# Altium footprint library ESP32_WROOM_PCB_LIB.....PcbLib: 15 footprints
Each footprint in its own frame and in the unit in brackets; x right, y up, seen from the top. Pads: shape width x height; smd on the part's side, far side on the other; paste and mask are expansions set on the pad; w line width, h text height; cw(c..) or ccw(c..) is an arc to the next point about the centre after c.
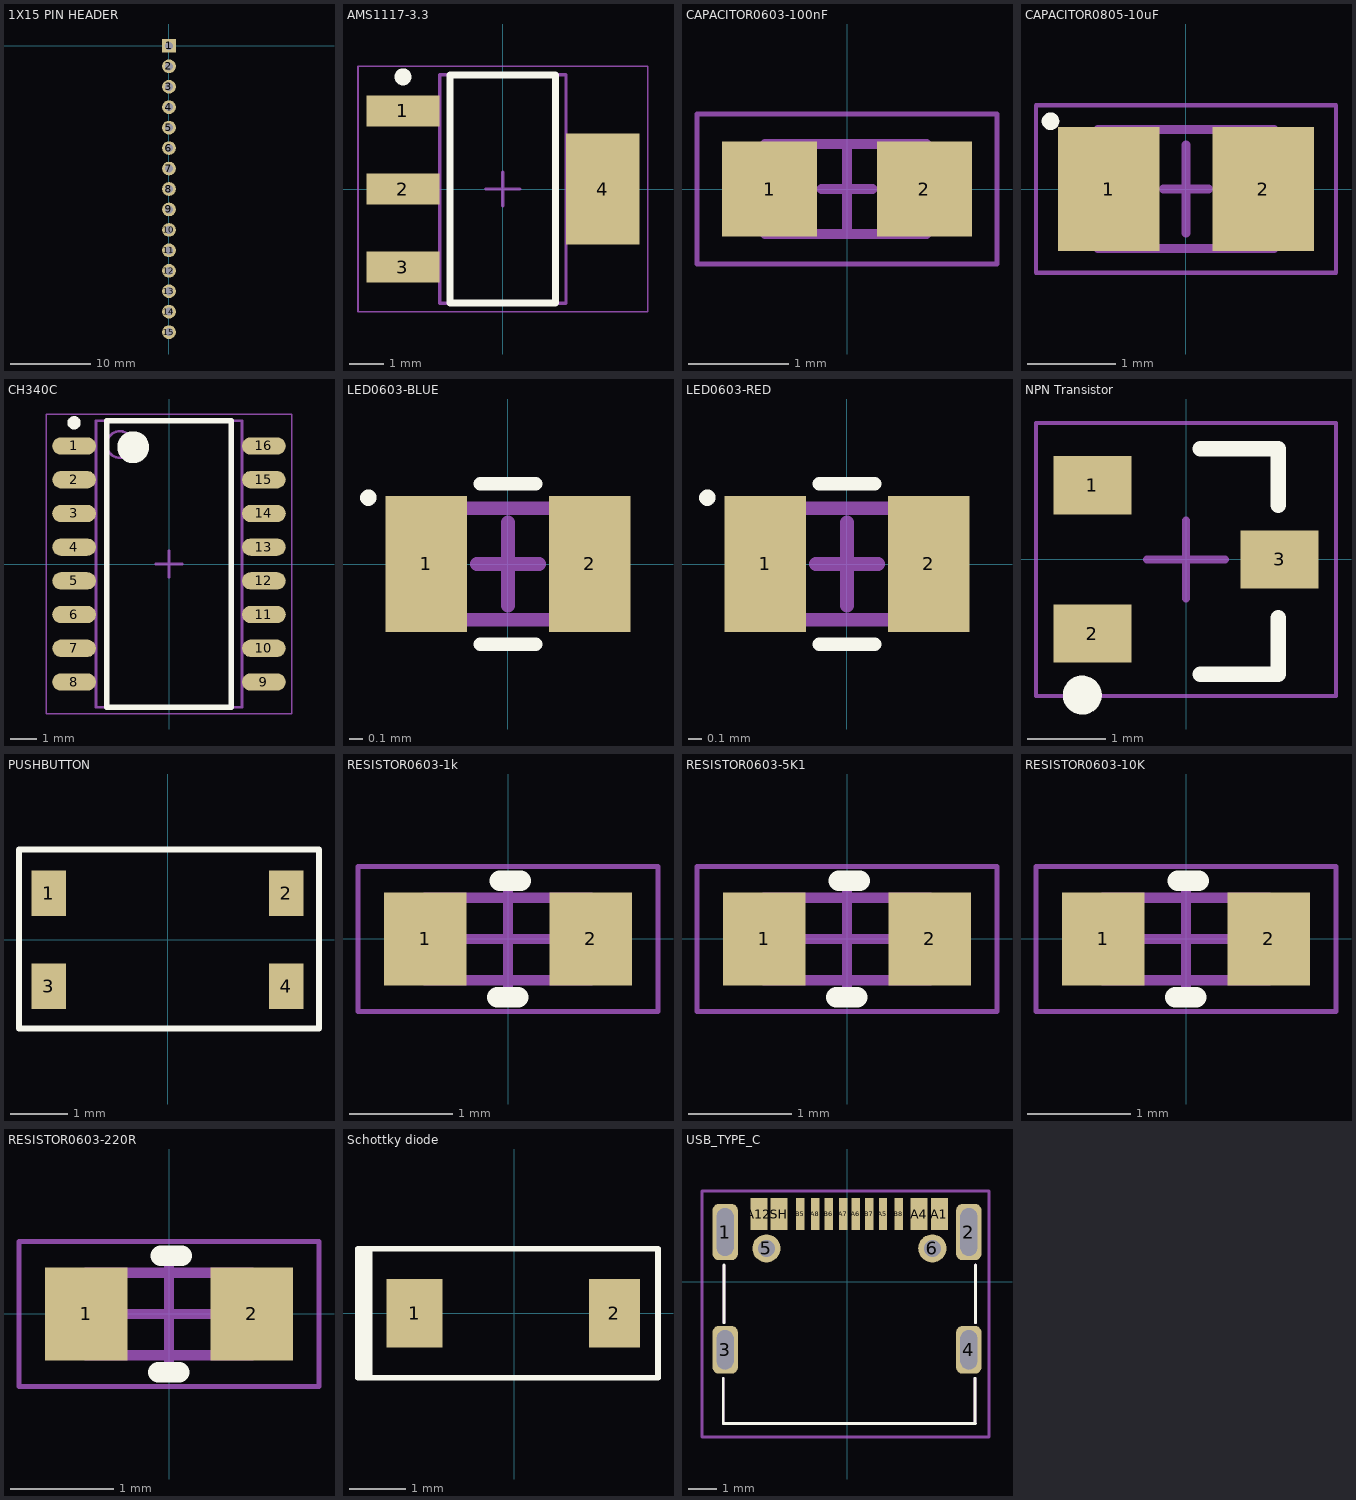
[diagram p0: the footprints below, top view; thin cyan lines are the x and y axes]

## 1X15 PIN HEADER [mm] "HTSW-115-07-G-S"
pads (15):
  rect 1.7x1.7 hole 1: 1(0,0)
  round 1.7 hole 1: 2(0,-2.54) 3(0,-5.08) 4(0,-7.62) 5(0,-10.16) 6(0,-12.7) 7(0,-15.24) 8(0,-17.78) 9(0,-20.32) 10(0,-22.86) 11(0,-25.4) 12(0,-27.94) 13(0,-30.48) 14(0,-33.02) 15(0,-35.56)
3D body "HTSW-115-07-G-S.stp": height 2.54, standoff -8.38, extent -1.235,-36.816 1.254,1.284

## AMS1117-3.3 [mm]
height 1.8
pads (4):
  rect 2.15x0.9 smd: 1(-2.93,2.29) 2(-2.93,0) 3(-2.93,-2.29)
  rect 2.15x3.25 smd: 4(2.93,0)
Top Overlay:
  circle w0.25: c-2.93,3.29 r0.125
  lines w0.2: -1.55,-3.35 -1.55,3.35 1.55,3.35 1.55,-3.35 -1.55,-3.35
Mechanical 13:
  lines w0.1: -1.855,-3.355 -1.855,3.355 1.855,3.355 1.855,-3.355 -1.855,-3.355
Mechanical 15:
  lines w0.05: -4.25,-3.6 -4.25,3.6 4.25,3.6 4.25,-3.6 -4.25,-3.6
  lines w0.1: -0.5,0 0.5,0 ; 0,-0.5 0,0.5
3D body: height 1.8, standoff 0.02, extent -1.855,-3.355 1.855,3.355

## CAPACITOR0603-100nF [mm] "Murata GRM188R71C104KA01D"
height 0.9
pads (2):
  rect 0.95x0.95 smd: 1(-0.775,0) 2(0.775,0)
Mechanical 13:
  lines w0.1: -0.819,-0.45 -0.819,0.45 0.794,0.45 0.794,-0.45 -0.819,-0.45
Mechanical 15:
  lines w0.05: -1.5,-0.75 -1.5,0.75 1.5,0.75 1.5,-0.75 -1.5,-0.75
  lines w0.1: -0.256,0 0.256,0 ; 0,-0.45 0,0.45
3D body "GRM188R71C104KA01D.STEP": height 0.8, standoff 0, extent -0.813,-0.45 0.787,0.45

## CAPACITOR0805-10uF [mm] "Murata GRM21BR61C106KE15L"
height 1.35
pads (2):
  rect 1.15x1.4 smd: 1(-0.875,0) 2(0.875,0)
Top Overlay:
  circle w0.1: c-1.536,0.768 r0.05
Mechanical 13:
  lines w0.1: -0.998,-0.675 -0.998,0.675 0.998,0.675 0.998,-0.675 -0.998,-0.675
Mechanical 15:
  lines w0.05: -1.7,-0.95 -1.7,0.95 1.7,0.95 1.7,-0.95 -1.7,-0.95
  lines w0.1: -0.256,0 0.256,0 ; 0,-0.5 0,0.5
3D body "GRM21BR61C106KE15L.STEP": height 1.22, standoff -0.03, extent -1,-0.675 1,0.675

## CH340C [mm]
height 1.9
pads (16):
  oval 1.65x0.65 smd: 1(-3.575,4.445) 2(-3.575,3.175) 3(-3.575,1.905) 4(-3.575,0.635) 5(-3.575,-0.635) 6(-3.575,-1.905) 7(-3.575,-3.175) 8(-3.575,-4.445) 9(3.575,-4.445) 10(3.575,-3.175) 11(3.575,-1.905) 12(3.575,-0.635) 13(3.575,0.635) 14(3.575,1.905) 15(3.575,3.175) 16(3.575,4.445)
Top Overlay:
  circle w0.25: c-3.575,5.32 r0.125
  circle w0.6: c-1.35,4.4 r0.3
  lines w0.2: -2.35,-5.4 -2.35,5.4 2.35,5.4 2.35,-5.4 -2.35,-5.4
Mechanical 13:
  circle w0.1: c-1.85,4.5 r0.5
  lines w0.1: -2.75,-5.4 -2.75,5.4 2.75,5.4 2.75,-5.4 -2.75,-5.4
Mechanical 15:
  lines w0.05: -4.625,-5.65 -4.625,5.65 4.625,5.65 4.625,-5.65 -4.625,-5.65
  lines w0.1: -0.5,0 0.5,0 ; 0,-0.5 0,0.5
3D body: height 1.9, standoff 0.25, extent -2.75,-5.4 2.75,5.4

## LED0603-BLUE [mm] "LTST-C190TBKT"
pads (2):
  rect 0.6x1 smd mask-2539.97: 1(-0.6,0) 2(0.6,0)
Top Overlay:
  circle w0.1: c-1.024,0.486 r0.01
  lines w0.1: -0.205,-0.589 0.205,-0.589 ; -0.205,0.589 0.205,0.589
Top Solder:
  region: 0.25,-0.55 0.25,0.55 0.95,0.55 0.95,-0.55
  region: -0.95,-0.55 -0.95,0.55 -0.25,0.55 -0.25,-0.55
Mechanical 13:
  lines w0.1: -0.794,-0.41 0.794,-0.41 0.794,0.41 -0.794,0.41 -0.794,-0.41
Mechanical 15:
  lines w0.1: -0.23,0 0.23,0 ; 0,-0.307 0,0.307
3D body "LTST-C190TBKT.STEP": height 0.65, standoff 0, extent -0.8,-0.4 0.8,0.4

## LED0603-RED [mm] "LTST-C190KRKT"
pads (2):
  rect 0.6x1 smd mask-2539.97: 1(-0.6,0) 2(0.6,0)
Top Overlay:
  circle w0.1: c-1.024,0.486 r0.01
  lines w0.1: -0.205,-0.589 0.205,-0.589 ; -0.205,0.589 0.205,0.589
Top Solder:
  region: -0.95,-0.55 -0.95,0.55 -0.25,0.55 -0.25,-0.55
  region: 0.25,-0.55 0.25,0.55 0.95,0.55 0.95,-0.55
Mechanical 13:
  lines w0.1: -0.794,-0.41 -0.794,0.41 0.794,0.41 0.794,-0.41 -0.794,-0.41
Mechanical 15:
  lines w0.1: -0.23,0 0.23,0 ; 0,-0.307 0,0.307
3D body "LTST-C190KRKT--3DModel-STEP-269445.STEP": height 0.8, standoff 0, extent -0.8,-0.4 0.8,0.4

## NPN Transistor [mm] "MMBT3904LT1G"
height 1.1
pads (3):
  rect 1x0.75 smd: 1(-1.2,0.95) 2(-1.2,-0.95) 3(1.2,0)
Top Overlay:
  circle w0.25: c-1.331,-1.741 r0.125
  lines w0.2: 0.186,-1.474 1.186,-1.474 1.186,-0.749 ; 0.186,1.423 1.186,1.423 1.186,0.698
Mechanical 15:
  lines w0.05: -1.925,-1.75 -1.925,1.75 1.925,1.75 1.925,-1.75 -1.925,-1.75
  lines w0.1: -0.5,0 0.5,0 ; 0,-0.5 0,0.5
3D body "MMBT3904LT1G.STEP": height 1.11, standoff 0, extent -1.251,-1.476 1.149,1.424

## PUSHBUTTON [mm] "KMR231GLFS"
pads (4):
  rect 0.6x0.8 smd mask-2539.97: 1(-2.087,0.819) 2(2.087,0.819) 3(-2.087,-0.819) 4(2.086,-0.819)
Top Overlay:
  lines w0.1: -2.611,-1.562 2.662,-1.562 2.662,1.587 -2.611,1.587 -2.611,-1.562
Top Solder:
  region: 1.736,-1.269 1.736,-0.369 2.436,-0.369 2.436,-1.269
  region: 1.737,0.369 1.737,1.269 2.437,1.269 2.437,0.369
  region: -2.437,-1.269 -2.437,-0.369 -1.737,-0.369 -1.737,-1.269
  region: -2.437,0.369 -2.437,1.269 -1.737,1.269 -1.737,0.369
3D body "KMR231GLFS--3DModel-STEP-269445.STEP": height 1.9, standoff 0, extent -2.31,-1.4 2.29,1.4

## RESISTOR0603-1k [mm] "RC0603FR-071KL"
height 0.55
pads (2):
  rect 0.8x0.9 smd: 1(-0.8,0) 2(0.8,0)
Top Overlay:
  lines w0.2: -0.102,-0.563 0.098,-0.563 ; -0.077,0.563 0.123,0.563
Mechanical 13:
  lines w0.1: -0.8,-0.4 -0.8,0.4 0.8,0.4 0.8,-0.4 -0.8,-0.4
Mechanical 15:
  lines w0.05: -1.45,-0.7 -1.45,0.7 1.45,0.7 1.45,-0.7 -1.45,-0.7
  lines w0.1: -0.45,0 0.45,0 ; 0,-0.45 0,0.45
3D body "RC0603FR-071KL.STEP": height 0.55, standoff 0, extent -0.8,-0.4 0.8,0.4

## RESISTOR0603-5K1 [mm] "RC0603FR-075K1L"
height 0.55
pads (2):
  rect 0.8x0.9 smd: 1(-0.8,0) 2(0.8,0)
Top Overlay:
  lines w0.2: -0.102,-0.563 0.098,-0.563 ; -0.077,0.563 0.123,0.563
Mechanical 13:
  lines w0.1: -0.8,-0.4 0.8,-0.4 0.8,0.4 -0.8,0.4 -0.8,-0.4
Mechanical 15:
  lines w0.05: -1.45,-0.7 1.45,-0.7 1.45,0.7 -1.45,0.7 -1.45,-0.7
  lines w0.1: -0.45,0 0.45,0 ; 0,-0.45 0,0.45
3D body "RC0603FR-075K1L.STEP": height 0.55, standoff 0, extent -0.8,-0.4 0.8,0.4

## RESISTOR0603-10K [mm] "RC0603FR-0710KL"
height 0.55
pads (2):
  rect 0.8x0.9 smd: 1(-0.8,0) 2(0.8,0)
Top Overlay:
  lines w0.2: -0.102,-0.563 0.098,-0.563 ; -0.077,0.563 0.123,0.563
Mechanical 13:
  lines w0.1: -0.8,-0.4 -0.8,0.4 0.8,0.4 0.8,-0.4 -0.8,-0.4
Mechanical 15:
  lines w0.05: -1.45,-0.7 -1.45,0.7 1.45,0.7 1.45,-0.7 -1.45,-0.7
  lines w0.1: -0.45,0 0.45,0 ; 0,-0.45 0,0.45
3D body "RC0603FR-075K1L.STEP": height 0.55, standoff 0, extent -0.8,-0.4 0.8,0.4

## RESISTOR0603-220R [mm] "RC0603FR-07220RL"
height 0.55
pads (2):
  rect 0.8x0.9 smd: 1(-0.8,0) 2(0.8,0)
Top Overlay:
  lines w0.2: -0.102,-0.563 0.098,-0.563 ; -0.077,0.563 0.123,0.563
Mechanical 13:
  lines w0.1: -0.8,-0.4 0.8,-0.4 0.8,0.4 -0.8,0.4 -0.8,-0.4
Mechanical 15:
  lines w0.05: -1.45,-0.7 1.45,-0.7 1.45,0.7 -1.45,0.7 -1.45,-0.7
  lines w0.1: -0.45,0 0.45,0 ; 0,-0.45 0,0.45
3D body "RC0603FR-07220RL.STEP": height 0.55, standoff 0, extent -0.8,-0.4 0.8,0.4

## Schottky diode [mm] "SOD-123"
pads (2):
  rect 1x1.22 smd mask-2539.97: 1(-1.78,0)
  rect 0.91x1.22 smd mask-2539.97: 2(1.78,0)
Top Overlay:
  rectangle: -2.79,-1.178 -2.534,1.152
  lines w0.1: -2.79,-1.152 2.56,-1.152 2.56,1.152 -2.79,1.152 -2.79,-1.152
Top Solder:
  region: 1.275,-0.665 1.275,0.665 2.285,0.665 2.285,-0.665
  region: -2.33,-0.665 -2.33,0.665 -1.23,0.665 -1.23,-0.665
3D body "SDO_SOD-123_MCC.step": height 1.5, standoff 0, extent -1.93,-0.902 1.93,0.902

## USB_TYPE_C [mm] "TYPE-C-31-M-12"
pads (18):
  rrect50% 0.9x2 hole 0.6 slot 1.7 at 90 deg: 1(-4.325,1.77) 2(4.325,1.77)
  rrect50% 0.9x1.7 hole 0.6 slot 1.4 at 90 deg: 3(-4.325,-2.41) 4(4.325,-2.41)
  round 1 hole 0.6: 5(-2.859,1.19) 6(3.029,1.19)
  rect 0.6x1.14 smd: A1(3.278,2.41) A4(2.558,2.41) A12(-3.126,2.41) SH(-2.409,2.41)
  rect 0.3x1.14 smd: A5(1.278,2.41) A6(0.305,2.41) A7(-0.13,2.41) A8(-1.129,2.41) B5(-1.666,2.41) B6(-0.642,2.41) B7(0.791,2.41) B8(1.841,2.41)
Top Overlay:
  lines w0.1: -4.395,-5.031 4.565,-5.031 4.539,-5.005 ; -4.395,-5.005 -4.395,-3.418 ; -4.37,-1.447 -4.37,0.601 ; 4.565,-1.447 4.565,0.601 ; 4.539,-5.005 4.539,-3.418 4.539,-5.005
Mechanical 1:
  lines w0.1: -4.395,-5.031 4.565,-5.031 4.539,-5.005 ; -4.395,-5.005 -4.395,-3.418 ; -4.37,-1.447 -4.37,0.601 ; 4.565,-1.447 4.565,0.601 ; 4.539,-5.005 4.539,-3.418 4.539,-5.005
Top Assembly:
  text ".Designator" at -4.997,-0.772 h1
Mechanical 15:
  lines w0.1: -5.146,-5.504 5.043,-5.504 5.043,3.226 -5.146,3.226 -5.146,-5.504
3D body "TYPE-C-31-M-12--3DModel-STEP-56544 (2).STEP": height 3.31, standoff -0.99, extent -4.385,-5.045 4.555,2.86